# Altium schematic symbol library TERMINAL_CONNECOR_3.SchLib: 1 symbol
Pins are listed as number, name and electrical type; pins without a type are passive.

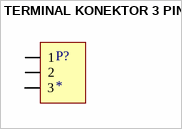
[diagram p0: symbol TERMINAL KONEKTOR 3 PINA]

## TERMINAL KONEKTOR 3 PINA
designator P?
TERMINAL KONEKTOR 3
footprint TERMINAL KONEKTOR 3 (Konektor 3 pina)
pins: 1, 2, 3